# Altium footprint library OAmp.PcbLib: 1 footprints
Each footprint in its own frame and in the unit in brackets; x right, y up, seen from the top. Pads: shape width x height; smd on the part's side, far side on the other; paste and mask are expansions set on the pad; w line width, h text height; cw(c..) or ccw(c..) is an arc to the next point about the centre after c.
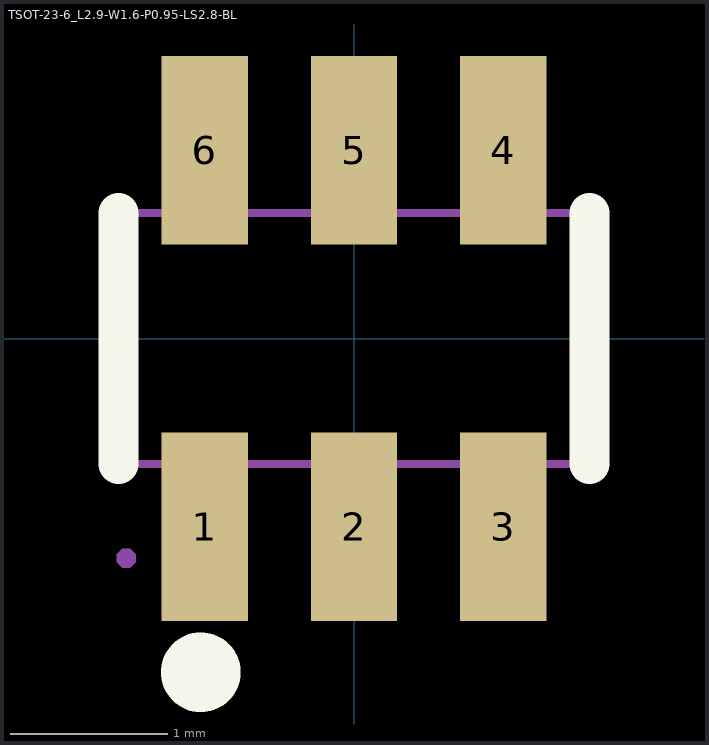
[diagram p0: the footprint, top view; thin cyan lines are the x and y axes]

## TSOT-23-6_L2.9-W1.6-P0.95-LS2.8-BL [mm]
pads (6):
  rect 0.55x1.2 smd: 1(-0.95,-1.2) 2(0,-1.2) 3(0.95,-1.2) 4(0.95,1.2) 5(0,1.2) 6(-0.95,1.2)
Top Overlay:
  circle w0.254: c-0.975,-2.125 r0.127
  lines w0.254: -1.5,-0.8 -1.5,0.8 ; 1.5,-0.8 1.5,0.8
Mechanical 15:
  region: -1.39,-1.4 -1.39,-1.425 -1.425,-1.46 -1.475,-1.46 -1.51,-1.425 -1.51,-1.4 -1.51,-1.375 -1.475,-1.34 -1.425,-1.34 -1.39,-1.375 -1.39,-1.4
  region: -1.137,1 -1.137,1.4 -0.762,1.4 -0.762,1
  region: -1.137,0.79 -1.137,1.01 -0.762,1.01 -0.762,0.79
  region: 0.762,1 0.762,1.4 1.137,1.4 1.137,1
  region: 0.762,0.79 0.762,1.01 1.137,1.01 1.137,0.79
  region: 0.762,-1.4 0.762,-1 1.137,-1 1.137,-1.4
  region: 0.762,-1.01 0.762,-0.79 1.137,-0.79 1.137,-1.01
  region: -0.188,-1.4 -0.188,-1 0.188,-1 0.188,-1.4
  region: -0.188,-1.01 -0.188,-0.79 0.188,-0.79 0.188,-1.01
  region: -1.137,-1.4 -1.137,-1 -0.762,-1 -0.762,-1.4
  region: -1.137,-1.01 -1.137,-0.79 -0.762,-0.79 -0.762,-1.01
  region: -0.188,1 -0.188,1.4 0.188,1.4 0.188,1
  region: -0.188,0.79 -0.188,1.01 0.188,1.01 0.188,0.79
  lines w0.051: -1.45,-0.8 -1.45,0.8 1.45,0.8 1.45,-0.8 -1.45,-0.8
3D body "LTC6268IS6#TRMPBF.stp": height 1, standoff 0, extent -1.45,-1.4 1.45,1.4